# EAGLE library part DS1307Z (library eigenebib)
Reichelt: DS 1307Z
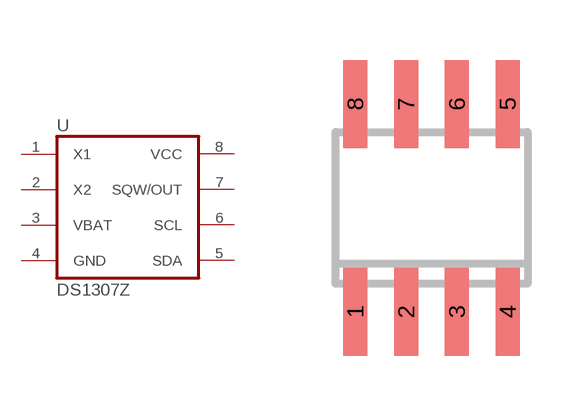
[diagram p0: symbol with the pads of SO8; footprint SO8]

Designator prefix -

## DS1307Z  [SO8]
1  X1
2  X2
3  VBAT  pwr
4  GND  pwr
5  SDA
6  SCL
7  SQW/OUT  out
8  VCC  pwr

## Footprint SO8 (pad centres in mm)
smd 0.6 x 2.2: 1 -1.905,-2.6; 2 -0.635,-2.6; 3 0.635,-2.6; 4 1.905,-2.6; 5 1.905,2.6; 6 0.635,2.6; 7 -0.635,2.6; 8 -1.905,2.6